# Altium schematic symbol library Headers.SchLib: 5 symbols
Pins are listed as number, name and electrical type; pins without a type are passive.

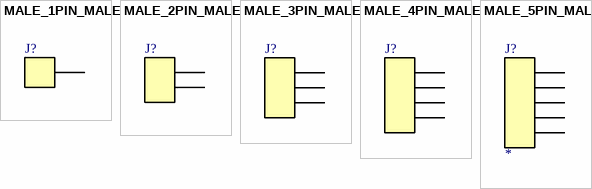
[diagram p0: symbols MALE_1PIN_MALE to MALE_5PIN_MALE]

## MALE_1PIN_MALE
designator J?
pins: 1

## MALE_2PIN_MALE
designator J?
pins: 1, 2

## MALE_3PIN_MALE
designator J?
pins: 1, 2, 3

## MALE_4PIN_MALE
designator J?
pins: 1, 2, 3, 4

## MALE_5PIN_MALE
designator J?
pins: 1, 2, 3, 4, 5